# Altium integrated library Capacitor - Aluminium TH.IntLib: 4591 symbols (part 35 of 68)
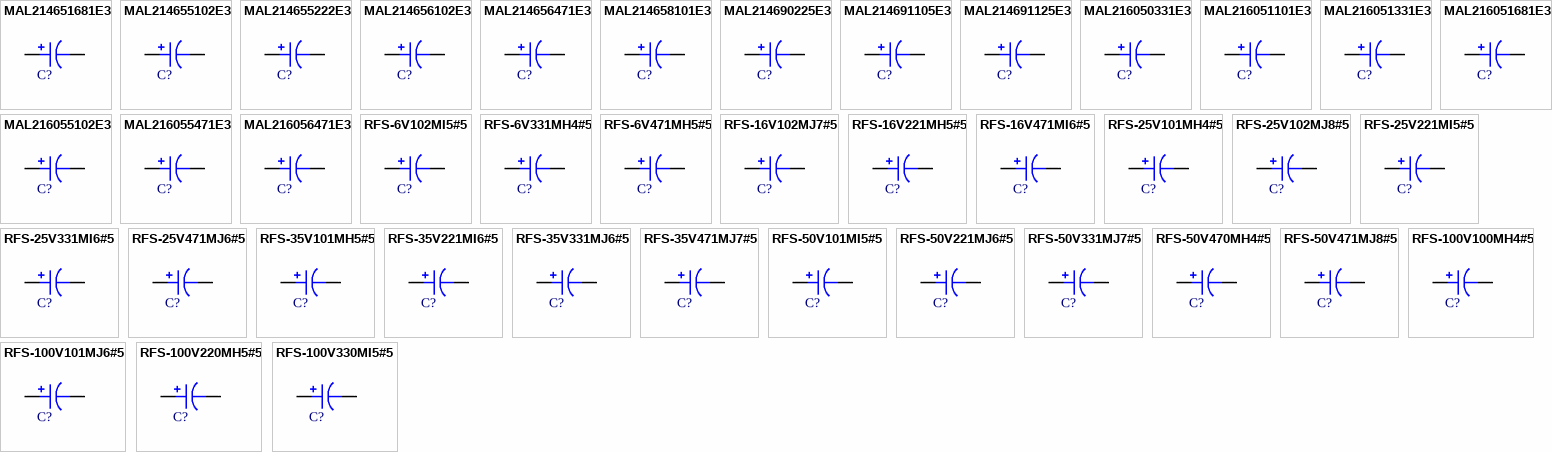
[diagram p148: symbols MAL214651681E3 to RFS-100V330MI5#5]

## MAL214655102E3
designator C?, comment 1000uF  (value not drawn)
CAP ALUM 1000UF 20% 16V RADIAL; Part Number: MAL214655102E3; Manufacturer: Vishay BC Components; TemperatureRange: -55C ~ 125C; Type: Polar; Ripple Current: 1.25A; Impedance: 60 mOhm; Value: 1000uF; PartId: 25999; Supplier 1: Digi-Key; Supplier Part Number 1: 4462PHBK-ND; ComponentLink1Description: Datasheet; ComponentLink1URL: http://www.vishay.com/docs/28401/146rti.pdf; ComponentLink2Description: Digi-Key Listing; ComponentLink2URL: https://www.digikey.com/product-detail/en/vishay-bc-components/MAL214655102E3/4462PHBK-ND/2410327; Tolerance: 20%; Voltage: 16V; Price: 1.52; Device Package: Radial, Can, 10mm
footprint CAP AL TH D10 L5 H22
pins: 1, 2

## MAL214655222E3
designator C?, comment 2200uF  (value not drawn)
CAP ALUM 2200UF 20% 16V RADIAL; Part Number: MAL214655222E3; Manufacturer: Vishay BC Components; TemperatureRange: -55C ~ 125C; Type: Polar; Ripple Current: 2A; Impedance: 33 mOhm; Value: 2200uF; PartId: 24192; Supplier 1: Digi-Key; Supplier Part Number 1: 4464PHBK-ND; ComponentLink1Description: Datasheet; ComponentLink1URL: http://www.vishay.com/docs/28401/146rti.pdf; ComponentLink2Description: Digi-Key Listing; ComponentLink2URL: https://www.digikey.com/product-detail/en/vishay-bc-components/MAL214655222E3/4464PHBK-ND/2410329; Tolerance: 20%; Voltage: 16V; Price: 2.41; Device Package: Radial, Can, 12.5mm
footprint CAP AL TH D12.5 L5 H27
pins: 1, 2

## MAL214656102E3
designator C?, comment 1000uF  (value not drawn)
CAP ALUM 1000UF 20% 25V RADIAL; Part Number: MAL214656102E3; Manufacturer: Vishay BC Components; TemperatureRange: -55C ~ 125C; Type: Polar; Ripple Current: 1.6A; Impedance: 43 mOhm; Value: 1000uF; PartId: 23532; Supplier 1: Digi-Key; Supplier Part Number 1: 4475PHBK-ND; ComponentLink1Description: Datasheet; ComponentLink1URL: http://www.vishay.com/docs/28401/146rti.pdf; ComponentLink2Description: Digi-Key Listing; ComponentLink2URL: https://www.digikey.com/product-detail/en/vishay-bc-components/MAL214656102E3/4475PHBK-ND/2410340; Tolerance: 20%; Voltage: 25V; Price: 1.98; Device Package: Radial, Can, 12.5mm
footprint CAP AL TH D12.5 L5 H22
pins: 1, 2

## MAL214656471E3
designator C?, comment 470uF  (value not drawn)
CAP ALUM 470UF 20% 25V RADIAL; Part Number: MAL214656471E3; Manufacturer: Vishay BC Components; TemperatureRange: -55C ~ 125C; Type: Polar; Ripple Current: 1.1A; Impedance: 75 mOhm; Value: 470uF; PartId: 25436; Supplier 1: Digi-Key; Supplier Part Number 1: 4473PHBK-ND; ComponentLink1Description: Datasheet; ComponentLink1URL: http://www.vishay.com/docs/28401/146rti.pdf; ComponentLink2Description: Digi-Key Listing; ComponentLink2URL: https://www.digikey.com/product-detail/en/vishay-bc-components/MAL214656471E3/4473PHBK-ND/2410338; Tolerance: 20%; Voltage: 25V; Price: 1.31; Device Package: Radial, Can, 10mm
footprint CAP AL TH D10 L5 H17.5
pins: 1, 2

## MAL214658101E3
designator C?, comment 100uF  (value not drawn)
CAP ALUM 100UF 20% 63V RADIAL; Part Number: MAL214658101E3; Manufacturer: Vishay BC Components; TemperatureRange: -55C ~ 125C; Type: Polar; Ripple Current: 600mA; Impedance: 220 mOhm; Value: 100uF; PartId: 25434; Supplier 1: Digi-Key; Supplier Part Number 1: 4512PHBK-ND; ComponentLink1Description: Datasheet; ComponentLink1URL: http://www.vishay.com/docs/28401/146rti.pdf; ComponentLink2Description: Digi-Key Listing; ComponentLink2URL: https://www.digikey.com/product-detail/en/vishay-bc-components/MAL214658101E3/4512PHBK-ND/2410377; Tolerance: 20%; Voltage: 63V; Price: 1.31; Device Package: Radial, Can, 10mm
footprint CAP AL TH D10 L5 H17.5
pins: 1, 2

## MAL214690225E3
designator C?, comment 2200uF  (value not drawn)
CAP ALUM 2200UF 20% 35V RADIAL; Part Number: MAL214690225E3; Manufacturer: Vishay BC Components; TemperatureRange: -55C ~ 125C; Type: Polar; Ripple Current: 3A; Impedance: 21 mOhm; Value: 2200uF; PartId: 27301; Supplier 1: Digi-Key; Supplier Part Number 1: 4494PHBK-ND; ComponentLink1Description: Datasheet; ComponentLink1URL: http://www.vishay.com/docs/28401/146rti.pdf; ComponentLink2Description: Digi-Key Listing; ComponentLink2URL: https://www.digikey.com/product-detail/en/vishay-bc-components/MAL214690225E3/4494PHBK-ND/2410359; Tolerance: 20%; Voltage: 35V; Price: 3.67; Device Package: Radial, Can, 16mm
footprint CAP AL TH D16 L7.5 H33.5
pins: 1, 2

## MAL214691105E3
designator C?, comment 1000uF  (value not drawn)
CAP ALUM 1000UF 20% 50V RADIAL; Part Number: MAL214691105E3; Manufacturer: Vishay BC Components; TemperatureRange: -55C ~ 125C; Type: Polar; Ripple Current: 2.1A; Impedance: 31 mOhm; Value: 1000uF; PartId: 26981; Supplier 1: Digi-Key; Supplier Part Number 1: 4505PHBK-ND; ComponentLink1Description: Datasheet; ComponentLink1URL: http://www.vishay.com/docs/28401/146rti.pdf; ComponentLink2Description: Digi-Key Listing; ComponentLink2URL: https://www.digikey.com/product-detail/en/vishay-bc-components/MAL214691105E3/4505PHBK-ND/2410370; Tolerance: 20%; Voltage: 50V; Price: 3.3; Device Package: Radial, Can, 16mm
footprint CAP AL TH D16 L7.5 H27
pins: 1, 2

## MAL214691125E3
designator C?, comment 1200uF  (value not drawn)
CAP ALUM 1200UF 20% 50V RADIAL; Part Number: MAL214691125E3; Manufacturer: Vishay BC Components; TemperatureRange: -55C ~ 125C; Type: Polar; Ripple Current: 2.55A; Impedance: 27 mOhm; Value: 1200uF; PartId: 27300; Supplier 1: Digi-Key; Supplier Part Number 1: 4507PHBK-ND; ComponentLink1Description: Datasheet; ComponentLink1URL: http://www.vishay.com/docs/28401/146rti.pdf; ComponentLink2Description: Digi-Key Listing; ComponentLink2URL: https://www.digikey.com/product-detail/en/vishay-bc-components/MAL214691125E3/4507PHBK-ND/2410372; Tolerance: 20%; Voltage: 50V; Price: 3.67; Device Package: Radial, Can, 16mm
footprint CAP AL TH D16 L7.5 H33.5
pins: 1, 2

## MAL216050331E3
designator C?, comment 330uF  (value not drawn)
CAP ALUM 330UF 20% 35V RADIAL; Part Number: MAL216050331E3; Manufacturer: Vishay BC Components; TemperatureRange: -55C ~ 150C; Type: Polar; Ripple Current: 455mA @ 100Hz; Impedance: 40 mOhm; Value: 330uF; PartId: 24200; Supplier 1: Digi-Key; Supplier Part Number 1: 4844PHBK-ND; ComponentLink1Description: Datasheet; ComponentLink1URL: http://www.vishay.com/docs/28420/160rla.pdf; ComponentLink2Description: Digi-Key Listing; ComponentLink2URL: https://www.digikey.com/product-detail/en/vishay-bc-components/MAL216050331E3/4844PHBK-ND/6002509; Tolerance: 20%; Voltage: 35V; Price: 2.52; Device Package: Radial, Can, 12.5mm
footprint CAP AL TH D12.5 L5 H27
pins: 1, 2

## MAL216051101E3
designator C?, comment 100uF  (value not drawn)
CAP ALUM 100UF 20% 50V RADIAL; Part Number: MAL216051101E3; Manufacturer: Vishay BC Components; TemperatureRange: -55C ~ 150C; Type: Polar; Ripple Current: 135mA @ 100Hz; Impedance: 260 mOhm; Value: 100uF; PartId: 25439; Supplier 1: Digi-Key; Supplier Part Number 1: 4840PHBK-ND; ComponentLink1Description: Datasheet; ComponentLink1URL: http://www.vishay.com/docs/28420/160rla.pdf; ComponentLink2Description: Digi-Key Listing; ComponentLink2URL: https://www.digikey.com/product-detail/en/vishay-bc-components/MAL216051101E3/4840PHBK-ND/6002505; Tolerance: 20%; Voltage: 50V; Price: 1.38; Device Package: Radial, Can, 10mm
footprint CAP AL TH D10 L5 H17.5
pins: 1, 2

## MAL216051331E3
designator C?, comment 330uF  (value not drawn)
CAP ALUM 330UF 20% 50V RADIAL; Part Number: MAL216051331E3; Manufacturer: Vishay BC Components; TemperatureRange: -55C ~ 150C; Type: Polar; Ripple Current: 200mA @ 100Hz; Impedance: 115 mOhm; Value: 330uF; PartId: 23535; Supplier 1: Digi-Key; Supplier Part Number 1: 4841PHBK-ND; ComponentLink1Description: Datasheet; ComponentLink1URL: http://www.vishay.com/docs/28420/160rla.pdf; ComponentLink2Description: Digi-Key Listing; ComponentLink2URL: https://www.digikey.com/product-detail/en/vishay-bc-components/MAL216051331E3/4841PHBK-ND/6002506; Tolerance: 20%; Voltage: 50V; Price: 2.09; Device Package: Radial, Can, 12.5mm
footprint CAP AL TH D12.5 L5 H22
pins: 1, 2

## MAL216051681E3
designator C?, comment 680uF  (value not drawn)
CAP ALUM 680UF 20% 50V RADIAL; Part Number: MAL216051681E3; Manufacturer: Vishay BC Components; TemperatureRange: -55C ~ 150C; Type: Polar; Ripple Current: 350mA @ 100Hz; Impedance: 69 mOhm; Value: 680uF; PartId: 26977; Supplier 1: Digi-Key; Supplier Part Number 1: 4845PHBK-ND; ComponentLink1Description: Datasheet; ComponentLink1URL: http://www.vishay.com/docs/28420/160rla.pdf; ComponentLink2Description: Digi-Key Listing; ComponentLink2URL: https://www.digikey.com/product-detail/en/vishay-bc-components/MAL216051681E3/4845PHBK-ND/6002510; Tolerance: 20%; Voltage: 50V; Price: 3.17; Device Package: Radial, Can, 16mm
footprint CAP AL TH D16 L7.5 H27
pins: 1, 2

## MAL216055102E3
designator C?, comment 1000uF  (value not drawn)
CAP ALUM 1000UF 20% 16V RADIAL; Part Number: MAL216055102E3; Manufacturer: Vishay BC Components; TemperatureRange: -55C ~ 150C; Type: Polar; Ripple Current: 560mA @ 100Hz; Impedance: 29 mOhm; Value: 1000uF; PartId: 26978; Supplier 1: Digi-Key; Supplier Part Number 1: 4842PHBK-ND; ComponentLink1Description: Datasheet; ComponentLink1URL: http://www.vishay.com/docs/28420/160rla.pdf; ComponentLink2Description: Digi-Key Listing; ComponentLink2URL: https://www.digikey.com/product-detail/en/vishay-bc-components/MAL216055102E3/4842PHBK-ND/6002507; Tolerance: 20%; Voltage: 16V; Price: 3.17; Device Package: Radial, Can, 16mm
footprint CAP AL TH D16 L7.5 H27
pins: 1, 2

## MAL216055471E3
designator C?, comment 470uF  (value not drawn)
CAP ALUM 470UF 20% 16V RADIAL; Part Number: MAL216055471E3; Manufacturer: Vishay BC Components; TemperatureRange: -55C ~ 150C; Type: Polar; Ripple Current: 420mA @ 100Hz; Impedance: 48 mOhm; Value: 470uF; PartId: 23536; Supplier 1: Digi-Key; Supplier Part Number 1: 4839PHBK-ND; ComponentLink1Description: Datasheet; ComponentLink1URL: http://www.vishay.com/docs/28420/160rla.pdf; ComponentLink2Description: Digi-Key Listing; ComponentLink2URL: https://www.digikey.com/product-detail/en/vishay-bc-components/MAL216055471E3/4839PHBK-ND/6002504; Tolerance: 20%; Voltage: 16V; Price: 2.09; Device Package: Radial, Can, 12.5mm
footprint CAP AL TH D12.5 L5 H22
pins: 1, 2

## MAL216056471E3
designator C?, comment 470uF  (value not drawn)
CAP ALUM 470UF 20% 25V RADIAL; Part Number: MAL216056471E3; Manufacturer: Vishay BC Components; TemperatureRange: -55C ~ 150C; Type: Polar; Ripple Current: 560mA @ 100Hz; Impedance: 29 mOhm; Value: 470uF; PartId: 26979; Supplier 1: Digi-Key; Supplier Part Number 1: 4843PHBK-ND; ComponentLink1Description: Datasheet; ComponentLink1URL: http://www.vishay.com/docs/28420/160rla.pdf; ComponentLink2Description: Digi-Key Listing; ComponentLink2URL: https://www.digikey.com/product-detail/en/vishay-bc-components/MAL216056471E3/4843PHBK-ND/6002508; Tolerance: 20%; Voltage: 25V; Price: 3.17; Device Package: Radial, Can, 16mm
footprint CAP AL TH D16 L7.5 H27
pins: 1, 2

## RFS-6V102MI5#5
designator C?, comment 1000uF  (value not drawn)
CAP ALUM 1000UF 20% 6.3V RADIAL; Part Number: RFS-6V102MI5#5; Manufacturer: Elna America; TemperatureRange: -40C ~ 85C; Type: Polar; Ripple Current: 710mA @ 120Hz; Value: 1000uF; PartId: 22944; Supplier 1: Digi-Key; Supplier Part Number 1: 604-1135-ND; ComponentLink1Description: Datasheet; ComponentLink1URL: http://www.elna.co.jp/en/capacitor/alumi/catalog/pdf/rfs_e.pdf; ComponentLink2Description: Digi-Key Listing; ComponentLink2URL: https://www.digikey.com/product-detail/en/elna-america/RFS-6V102MI5-5/604-1135-ND/2171186; Tolerance: 20%; Voltage: 6.3V; Price: 0; Device Package: Radial, Can, 12.5mm
footprint CAP AL TH D12.5 L5 H20
pins: 1, 2

## RFS-6V331MH4#5
designator C?, comment 330uF  (value not drawn)
CAP ALUM 330UF 20% 6.3V RADIAL; Part Number: RFS-6V331MH4#5; Manufacturer: Elna America; TemperatureRange: -40C ~ 85C; Type: Polar; Ripple Current: 290mA @ 120Hz; Value: 330uF; PartId: 25402; Supplier 1: Digi-Key; Supplier Part Number 1: 604-1138-ND; ComponentLink1Description: Datasheet; ComponentLink1URL: http://www.elna.co.jp/en/capacitor/alumi/catalog/pdf/rfs_e.pdf; ComponentLink2Description: Digi-Key Listing; ComponentLink2URL: https://www.digikey.com/product-detail/en/elna-america/RFS-6V331MH4-5/604-1138-ND/2171189; Tolerance: 20%; Voltage: 6.3V; Price: 0.8; Device Package: Radial, Can, 10mm
footprint CAP AL TH D10 L5 H17.5
pins: 1, 2

## RFS-6V471MH5#5
designator C?, comment 470uF  (value not drawn)
CAP ALUM 470UF 20% 6.3V RADIAL; Part Number: RFS-6V471MH5#5; Manufacturer: Elna America; TemperatureRange: -40C ~ 85C; Type: Polar; Ripple Current: 390mA @ 120Hz; Value: 470uF; PartId: 25685; Supplier 1: Digi-Key; Supplier Part Number 1: 604-1141-ND; ComponentLink1Description: Datasheet; ComponentLink1URL: http://www.elna.co.jp/en/capacitor/alumi/catalog/pdf/rfs_e.pdf; ComponentLink2Description: Digi-Key Listing; ComponentLink2URL: https://www.digikey.com/product-detail/en/elna-america/RFS-6V471MH5-5/604-1141-ND/2171192; Tolerance: 20%; Voltage: 6.3V; Price: 0.8; Device Package: Radial, Can, 10mm
footprint CAP AL TH D10 L5 H22
pins: 1, 2

## RFS-16V102MJ7#5
designator C?, comment 1000uF  (value not drawn)
CAP ALUM 1000UF 20% 16V RADIAL; Part Number: RFS-16V102MJ7#5; Manufacturer: Elna America; TemperatureRange: -40C ~ 85C; Type: Polar; Ripple Current: 1.315A @ 120Hz; Value: 1000uF; PartId: 27238; Supplier 1: Digi-Key; Supplier Part Number 1: 604-1111-ND; ComponentLink1Description: Datasheet; ComponentLink1URL: http://www.elna.co.jp/en/capacitor/alumi/catalog/pdf/rfs_e.pdf; ComponentLink2Description: Digi-Key Listing; ComponentLink2URL: https://www.digikey.com/product-detail/en/elna-america/RFS-16V102MJ7-5/604-1111-ND/2171162; Tolerance: 20%; Voltage: 16V; Price: 2.52; Device Package: Radial, Can, 16mm
footprint CAP AL TH D16 L7.5 H33.5
pins: 1, 2

## RFS-16V221MH5#5
designator C?, comment 220uF  (value not drawn)
CAP ALUM 220UF 20% 16V RADIAL; Part Number: RFS-16V221MH5#5; Manufacturer: Elna America; TemperatureRange: -40C ~ 85C; Type: Polar; Ripple Current: 385mA @ 120Hz; Value: 220uF; PartId: 25680; Supplier 1: Digi-Key; Supplier Part Number 1: 604-1114-ND; ComponentLink1Description: Datasheet; ComponentLink1URL: http://www.elna.co.jp/en/capacitor/alumi/catalog/pdf/rfs_e.pdf; ComponentLink2Description: Digi-Key Listing; ComponentLink2URL: https://www.digikey.com/product-detail/en/elna-america/RFS-16V221MH5-5/604-1114-ND/2171165; Tolerance: 20%; Voltage: 16V; Price: 0.8; Device Package: Radial, Can, 10mm
footprint CAP AL TH D10 L5 H22
pins: 1, 2

## RFS-16V471MI6#5
designator C?, comment 470uF  (value not drawn)
CAP ALUM 470UF 20% 16V RADIAL; Part Number: RFS-16V471MI6#5; Manufacturer: Elna America; TemperatureRange: -40C ~ 85C; Type: Polar; Ripple Current: 710mA @ 120Hz; Value: 470uF; PartId: 23617; Supplier 1: Digi-Key; Supplier Part Number 1: 604-1116-ND; ComponentLink1Description: Datasheet; ComponentLink1URL: http://www.elna.co.jp/en/capacitor/alumi/catalog/pdf/rfs_e.pdf; ComponentLink2Description: Digi-Key Listing; ComponentLink2URL: https://www.digikey.com/product-detail/en/elna-america/RFS-16V471MI6-5/604-1116-ND/2171167; Tolerance: 20%; Voltage: 16V; Price: 1.33; Device Package: Radial, Can, 12.5mm
footprint CAP AL TH D12.5 L5 H25
pins: 1, 2

## RFS-25V101MH4#5
designator C?, comment 100uF  (value not drawn)
CAP ALUM 100UF 20% 25V RADIAL; Part Number: RFS-25V101MH4#5; Manufacturer: Elna America; TemperatureRange: -40C ~ 85C; Type: Polar; Ripple Current: 270mA @ 120Hz; Value: 100uF; PartId: 25397; Supplier 1: Digi-Key; Supplier Part Number 1: 604-1055-ND; ComponentLink1Description: Datasheet; ComponentLink1URL: http://www.elna.co.jp/en/capacitor/alumi/catalog/pdf/rfs_e.pdf; ComponentLink2Description: Digi-Key Listing; ComponentLink2URL: https://www.digikey.com/product-detail/en/elna-america/RFS-25V101MH4-5/604-1055-ND/970216; Tolerance: 20%; Voltage: 25V; Price: 0.8; Device Package: Radial, Can, 10mm
footprint CAP AL TH D10 L5 H17.5
pins: 1, 2

## RFS-25V102MJ8#5
designator C?, comment 1000uF  (value not drawn)
CAP ALUM 1000UF 20% 25V RADIAL; Part Number: RFS-25V102MJ8#5; Manufacturer: Elna America; TemperatureRange: -40C ~ 85C; Type: Polar; Ripple Current: 1.575A @ 120Hz; Value: 1000uF; PartId: 27440; Supplier 1: Digi-Key; Supplier Part Number 1: 604-1059-ND; ComponentLink1Description: Datasheet; ComponentLink1URL: http://www.elna.co.jp/en/capacitor/alumi/catalog/pdf/rfs_e.pdf; ComponentLink2Description: Digi-Key Listing; ComponentLink2URL: https://www.digikey.com/product-detail/en/elna-america/RFS-25V102MJ8-5/604-1059-ND/970220; Tolerance: 20%; Voltage: 25V; Price: 3.38; Device Package: Radial, Can, 16mm
footprint CAP AL TH D16 L7.5 H37
pins: 1, 2

## RFS-25V221MI5#5
designator C?, comment 220uF  (value not drawn)
CAP ALUM 220UF 20% 25V RADIAL; Part Number: RFS-25V221MI5#5; Manufacturer: Elna America; TemperatureRange: -40C ~ 85C; Type: Polar; Ripple Current: 505mA @ 120Hz; Value: 220uF; PartId: 22942; Supplier 1: Digi-Key; Supplier Part Number 1: 604-1056-ND; ComponentLink1Description: Datasheet; ComponentLink1URL: http://www.elna.co.jp/en/capacitor/alumi/catalog/pdf/rfs_e.pdf; ComponentLink2Description: Digi-Key Listing; ComponentLink2URL: https://www.digikey.com/product-detail/en/elna-america/RFS-25V221MI5-5/604-1056-ND/970217; Tolerance: 20%; Voltage: 25V; Price: 0; Device Package: Radial, Can, 12.5mm
footprint CAP AL TH D12.5 L5 H20
pins: 1, 2

## RFS-25V331MI6#5
designator C?, comment 330uF  (value not drawn)
CAP ALUM 330UF 20% 25V RADIAL; Part Number: RFS-25V331MI6#5; Manufacturer: Elna America; TemperatureRange: -40C ~ 85C; Type: Polar; Ripple Current: 675mA @ 120Hz; Value: 330uF; PartId: 23619; Supplier 1: Digi-Key; Supplier Part Number 1: 604-1057-ND; ComponentLink1Description: Datasheet; ComponentLink1URL: http://www.elna.co.jp/en/capacitor/alumi/catalog/pdf/rfs_e.pdf; ComponentLink2Description: Digi-Key Listing; ComponentLink2URL: https://www.digikey.com/product-detail/en/elna-america/RFS-25V331MI6-5/604-1057-ND/970218; Tolerance: 20%; Voltage: 25V; Price: 1.33; Device Package: Radial, Can, 12.5mm
footprint CAP AL TH D12.5 L5 H25
pins: 1, 2

## RFS-25V471MJ6#5
designator C?, comment 470uF  (value not drawn)
CAP ALUM 470UF 20% 25V RADIAL; Part Number: RFS-25V471MJ6#5; Manufacturer: Elna America; TemperatureRange: -40C ~ 85C; Type: Polar; Ripple Current: 940mA @ 120Hz; Value: 470uF; PartId: 26708; Supplier 1: Digi-Key; Supplier Part Number 1: 604-1058-ND; ComponentLink1Description: Datasheet; ComponentLink1URL: http://www.elna.co.jp/en/capacitor/alumi/catalog/pdf/rfs_e.pdf; ComponentLink2Description: Digi-Key Listing; ComponentLink2URL: https://www.digikey.com/product-detail/en/elna-america/RFS-25V471MJ6-5/604-1058-ND/970219; Tolerance: 20%; Voltage: 25V; Price: 2.34; Device Package: Radial, Can, 16mm
footprint CAP AL TH D16 L7.5 H26.5
pins: 1, 2

## RFS-35V101MH5#5
designator C?, comment 100uF  (value not drawn)
CAP ALUM 100UF 20% 35V RADIAL; Part Number: RFS-35V101MH5#5; Manufacturer: Elna America; TemperatureRange: -40C ~ 85C; Type: Polar; Ripple Current: 295mA @ 120Hz; Value: 100uF; PartId: 25681; Supplier 1: Digi-Key; Supplier Part Number 1: 604-1065-ND; ComponentLink1Description: Datasheet; ComponentLink1URL: http://www.elna.co.jp/en/capacitor/alumi/catalog/pdf/rfs_e.pdf; ComponentLink2Description: Digi-Key Listing; ComponentLink2URL: https://www.digikey.com/product-detail/en/elna-america/RFS-35V101MH5-5/604-1065-ND/970226; Tolerance: 20%; Voltage: 35V; Price: 0.8; Device Package: Radial, Can, 10mm
footprint CAP AL TH D10 L5 H22
pins: 1, 2

## RFS-35V221MI6#5
designator C?, comment 220uF  (value not drawn)
CAP ALUM 220UF 20% 35V RADIAL; Part Number: RFS-35V221MI6#5; Manufacturer: Elna America; TemperatureRange: -40C ~ 85C; Type: Polar; Ripple Current: 550mA @ 120Hz; Value: 220uF; PartId: 23620; Supplier 1: Digi-Key; Supplier Part Number 1: 604-1066-ND; ComponentLink1Description: Datasheet; ComponentLink1URL: http://www.elna.co.jp/en/capacitor/alumi/catalog/pdf/rfs_e.pdf; ComponentLink2Description: Digi-Key Listing; ComponentLink2URL: https://www.digikey.com/product-detail/en/elna-america/RFS-35V221MI6-5/604-1066-ND/970227; Tolerance: 20%; Voltage: 35V; Price: 1.33; Device Package: Radial, Can, 12.5mm
footprint CAP AL TH D12.5 L5 H25
pins: 1, 2

## RFS-35V331MJ6#5
designator C?, comment 330uF  (value not drawn)
CAP ALUM 330UF 20% 35V RADIAL; Part Number: RFS-35V331MJ6#5; Manufacturer: Elna America; TemperatureRange: -40C ~ 85C; Type: Polar; Ripple Current: 785mA @ 120Hz; Value: 330uF; PartId: 26709; Supplier 1: Digi-Key; Supplier Part Number 1: 604-1067-ND; ComponentLink1Description: Datasheet; ComponentLink1URL: http://www.elna.co.jp/en/capacitor/alumi/catalog/pdf/rfs_e.pdf; ComponentLink2Description: Digi-Key Listing; ComponentLink2URL: https://www.digikey.com/product-detail/en/elna-america/RFS-35V331MJ6-5/604-1067-ND/970228; Tolerance: 20%; Voltage: 35V; Price: 2.34; Device Package: Radial, Can, 16mm
footprint CAP AL TH D16 L7.5 H26.5
pins: 1, 2

## RFS-35V471MJ7#5
designator C?, comment 470uF  (value not drawn)
CAP ALUM 470UF 20% 35V RADIAL; Part Number: RFS-35V471MJ7#5; Manufacturer: Elna America; TemperatureRange: -40C ~ 85C; Type: Polar; Ripple Current: 1.03A @ 120Hz; Value: 470uF; PartId: 27240; Supplier 1: Digi-Key; Supplier Part Number 1: 604-1068-ND; ComponentLink1Description: Datasheet; ComponentLink1URL: http://www.elna.co.jp/en/capacitor/alumi/catalog/pdf/rfs_e.pdf; ComponentLink2Description: Digi-Key Listing; ComponentLink2URL: https://www.digikey.com/product-detail/en/elna-america/RFS-35V471MJ7-5/604-1068-ND/970229; Tolerance: 20%; Voltage: 35V; Price: 2.52; Device Package: Radial, Can, 16mm
footprint CAP AL TH D16 L7.5 H33.5
pins: 1, 2

## RFS-50V101MI5#5
designator C?, comment 100uF  (value not drawn)
CAP ALUM 100UF 20% 50V RADIAL; Part Number: RFS-50V101MI5#5; Manufacturer: Elna America; TemperatureRange: -40C ~ 85C; Type: Polar; Ripple Current: 380mA @ 120Hz; Value: 100uF; PartId: 22943; Supplier 1: Digi-Key; Supplier Part Number 1: 604-1120-ND; ComponentLink1Description: Datasheet; ComponentLink1URL: http://www.elna.co.jp/en/capacitor/alumi/catalog/pdf/rfs_e.pdf; ComponentLink2Description: Digi-Key Listing; ComponentLink2URL: https://www.digikey.com/product-detail/en/elna-america/RFS-50V101MI5-5/604-1120-ND/2171171; Tolerance: 20%; Voltage: 50V; Price: 0; Device Package: Radial, Can, 12.5mm
footprint CAP AL TH D12.5 L5 H20
pins: 1, 2

## RFS-50V221MJ6#5
designator C?, comment 220uF  (value not drawn)
CAP ALUM 220UF 20% 50V RADIAL; Part Number: RFS-50V221MJ6#5; Manufacturer: Elna America; TemperatureRange: -40C ~ 85C; Type: Polar; Ripple Current: 720mA @ 120Hz; Value: 220uF; PartId: 26707; Supplier 1: Digi-Key; Supplier Part Number 1: 604-1123-ND; ComponentLink1Description: Datasheet; ComponentLink1URL: http://www.elna.co.jp/en/capacitor/alumi/catalog/pdf/rfs_e.pdf; ComponentLink2Description: Digi-Key Listing; ComponentLink2URL: https://www.digikey.com/product-detail/en/elna-america/RFS-50V221MJ6-5/604-1123-ND/2171174; Tolerance: 20%; Voltage: 50V; Price: 2.34; Device Package: Radial, Can, 16mm
footprint CAP AL TH D16 L7.5 H26.5
pins: 1, 2

## RFS-50V331MJ7#5
designator C?, comment 330uF  (value not drawn)
CAP ALUM 330UF 20% 50V RADIAL; Part Number: RFS-50V331MJ7#5; Manufacturer: Elna America; TemperatureRange: -40C ~ 85C; Type: Polar; Ripple Current: 965mA @ 120Hz; Value: 330uF; PartId: 27239; Supplier 1: Digi-Key; Supplier Part Number 1: 604-1126-ND; ComponentLink1Description: Datasheet; ComponentLink1URL: http://www.elna.co.jp/en/capacitor/alumi/catalog/pdf/rfs_e.pdf; ComponentLink2Description: Digi-Key Listing; ComponentLink2URL: https://www.digikey.com/product-detail/en/elna-america/RFS-50V331MJ7-5/604-1126-ND/2171177; Tolerance: 20%; Voltage: 50V; Price: 2.52; Device Package: Radial, Can, 16mm
footprint CAP AL TH D16 L7.5 H33.5
pins: 1, 2

## RFS-50V470MH4#5
designator C?, comment 47uF  (value not drawn)
CAP ALUM 47UF 20% 50V RADIAL; Part Number: RFS-50V470MH4#5; Manufacturer: Elna America; TemperatureRange: -40C ~ 85C; Type: Polar; Ripple Current: 210mA @ 120Hz; Value: 47uF; PartId: 25400; Supplier 1: Digi-Key; Supplier Part Number 1: 604-1127-ND; ComponentLink1Description: Datasheet; ComponentLink1URL: http://www.elna.co.jp/en/capacitor/alumi/catalog/pdf/rfs_e.pdf; ComponentLink2Description: Digi-Key Listing; ComponentLink2URL: https://www.digikey.com/product-detail/en/elna-america/RFS-50V470MH4-5/604-1127-ND/2171178; Tolerance: 20%; Voltage: 50V; Price: 0.8; Device Package: Radial, Can, 10mm
footprint CAP AL TH D10 L5 H17.5
pins: 1, 2

## RFS-50V471MJ8#5
designator C?, comment 470uF  (value not drawn)
CAP ALUM 470UF 20% 50V RADIAL; Part Number: RFS-50V471MJ8#5; Manufacturer: Elna America; TemperatureRange: -40C ~ 85C; Type: Polar; Ripple Current: 1.21A @ 120Hz; Value: 470uF; PartId: 27439; Supplier 1: Digi-Key; Supplier Part Number 1: 604-1128-ND; ComponentLink1Description: Datasheet; ComponentLink1URL: http://www.elna.co.jp/en/capacitor/alumi/catalog/pdf/rfs_e.pdf; ComponentLink2Description: Digi-Key Listing; ComponentLink2URL: https://www.digikey.com/product-detail/en/elna-america/RFS-50V471MJ8-5/604-1128-ND/2171179; Tolerance: 20%; Voltage: 50V; Price: 3.38; Device Package: Radial, Can, 16mm
footprint CAP AL TH D16 L7.5 H37
pins: 1, 2

## RFS-100V100MH4#5
designator C?, comment 10uF  (value not drawn)
CAP ALUM 10UF 20% 100V RADIAL; Part Number: RFS-100V100MH4#5; Manufacturer: Elna America; TemperatureRange: -40C ~ 85C; Type: Polar; Ripple Current: 95mA @ 120Hz; Value: 10uF; PartId: 25399; Supplier 1: Digi-Key; Supplier Part Number 1: 604-1099-ND; ComponentLink1Description: Datasheet; ComponentLink1URL: http://www.elna.co.jp/en/capacitor/alumi/catalog/pdf/rfs_e.pdf; ComponentLink2Description: Digi-Key Listing; ComponentLink2URL: https://www.digikey.com/product-detail/en/elna-america/RFS-100V100MH4-5/604-1099-ND/2171150; Tolerance: 20%; Voltage: 100V; Price: 0.8; Device Package: Radial, Can, 10mm
footprint CAP AL TH D10 L5 H17.5
pins: 1, 2

## RFS-100V101MJ6#5
designator C?, comment 100uF  (value not drawn)
CAP ALUM 100UF 20% 100V RADIAL; Part Number: RFS-100V101MJ6#5; Manufacturer: Elna America; TemperatureRange: -40C ~ 85C; Type: Polar; Ripple Current: 485mA @ 120Hz; Value: 100uF; PartId: 26710; Supplier 1: Digi-Key; Supplier Part Number 1: 604-1100-ND; ComponentLink1Description: Datasheet; ComponentLink1URL: http://www.elna.co.jp/en/capacitor/alumi/catalog/pdf/rfs_e.pdf; ComponentLink2Description: Digi-Key Listing; ComponentLink2URL: https://www.digikey.com/product-detail/en/elna-america/RFS-100V101MJ6-5/604-1100-ND/2171151; Tolerance: 20%; Voltage: 100V; Price: 2.34; Device Package: Radial, Can, 16mm
footprint CAP AL TH D16 L7.5 H26.5
pins: 1, 2

## RFS-100V220MH5#5
designator C?, comment 22uF  (value not drawn)
CAP ALUM 22UF 20% 100V RADIAL; Part Number: RFS-100V220MH5#5; Manufacturer: Elna America; TemperatureRange: -40C ~ 85C; Type: Polar; Ripple Current: 155mA @ 120Hz; Value: 22uF; PartId: 25684; Supplier 1: Digi-Key; Supplier Part Number 1: 604-1101-ND; ComponentLink1Description: Datasheet; ComponentLink1URL: http://www.elna.co.jp/en/capacitor/alumi/catalog/pdf/rfs_e.pdf; ComponentLink2Description: Digi-Key Listing; ComponentLink2URL: https://www.digikey.com/product-detail/en/elna-america/RFS-100V220MH5-5/604-1101-ND/2171152; Tolerance: 20%; Voltage: 100V; Price: 0.8; Device Package: Radial, Can, 10mm
footprint CAP AL TH D10 L5 H22
pins: 1, 2

## RFS-100V330MI5#5
designator C?, comment 33uF  (value not drawn)
CAP ALUM 33UF 20% 100V RADIAL; Part Number: RFS-100V330MI5#5; Manufacturer: Elna America; TemperatureRange: -40C ~ 85C; Type: Polar; Ripple Current: 220mA @ 120Hz; Value: 33uF; PartId: 22945; Supplier 1: Digi-Key; Supplier Part Number 1: 604-1105-ND; ComponentLink1Description: Datasheet; ComponentLink1URL: http://www.elna.co.jp/en/capacitor/alumi/catalog/pdf/rfs_e.pdf; ComponentLink2Description: Digi-Key Listing; ComponentLink2URL: https://www.digikey.com/product-detail/en/elna-america/RFS-100V330MI5-5/604-1105-ND/2171156; Tolerance: 20%; Voltage: 100V; Price: 0; Device Package: Radial, Can, 12.5mm
footprint CAP AL TH D12.5 L5 H20
pins: 1, 2

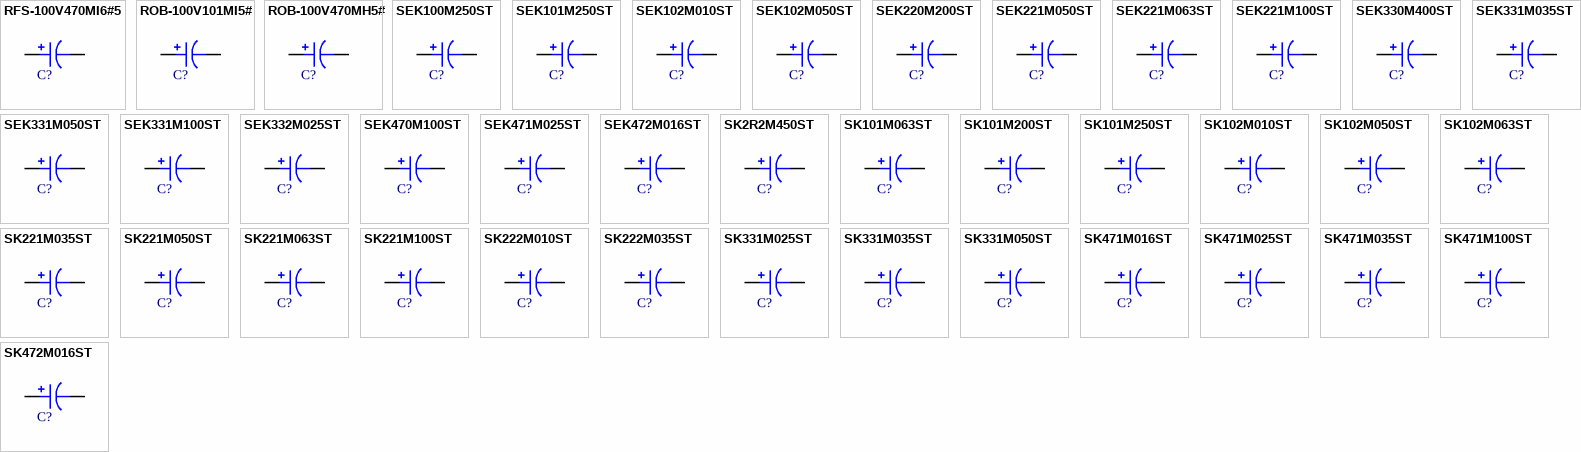
[diagram p57: symbols RFS-100V470MI6#5 to SK472M016ST]

## RFS-100V470MI6#5
designator C?, comment 47uF  (value not drawn)
CAP ALUM 47UF 20% 100V RADIAL; Part Number: RFS-100V470MI6#5; Manufacturer: Elna America; TemperatureRange: -40C ~ 85C; Type: Polar; Ripple Current: 285mA @ 120Hz; Value: 47uF; PartId: 23618; Supplier 1: Digi-Key; Supplier Part Number 1: 604-1107-ND; ComponentLink1Description: Datasheet; ComponentLink1URL: http://www.elna.co.jp/en/capacitor/alumi/catalog/pdf/rfs_e.pdf; ComponentLink2Description: Digi-Key Listing; ComponentLink2URL: https://www.digikey.com/product-detail/en/elna-america/RFS-100V470MI6-5/604-1107-ND/2171158; Tolerance: 20%; Voltage: 100V; Price: 1.33; Device Package: Radial, Can, 12.5mm
footprint CAP AL TH D12.5 L5 H25
pins: 1, 2

## ROB-100V101MI5#
designator C?, comment 100uF  (value not drawn)
CAP ALUM 100UF 20% 100V RADIAL; Part Number: ROB-100V101MI5#; Manufacturer: Elna America; TemperatureRange: -40C ~ 85C; Type: Polar; Ripple Current: 340mA @ 120Hz; Value: 100uF; PartId: 22946; Supplier 1: Digi-Key; Supplier Part Number 1: 604-1142-ND; ComponentLink1Description: Datasheet; ComponentLink1URL: http://www.elna.co.jp/en/capacitor/alumi/catalog/pdf/rob_e.pdf; ComponentLink2Description: Digi-Key Listing; ComponentLink2URL: https://www.digikey.com/product-detail/en/elna-america/ROB-100V101MI5-/604-1142-ND/2171193; Tolerance: 20%; Voltage: 100V; Price: 0; Device Package: Radial, Can, 12.5mm
footprint CAP AL TH D12.5 L5 H20
pins: 1, 2

## ROB-100V470MH5#
designator C?, comment 47uF  (value not drawn)
CAP ALUM 47UF 20% 100V RADIAL; Part Number: ROB-100V470MH5#; Manufacturer: Elna America; TemperatureRange: -40C ~ 85C; Type: Polar; Ripple Current: 210mA @ 120Hz; Value: 47uF; PartId: 25683; Supplier 1: Digi-Key; Supplier Part Number 1: 604-1143-ND; ComponentLink1Description: Datasheet; ComponentLink1URL: http://www.elna.co.jp/en/capacitor/alumi/catalog/pdf/rob_e.pdf; ComponentLink2Description: Digi-Key Listing; ComponentLink2URL: https://www.digikey.com/product-detail/en/elna-america/ROB-100V470MH5-/604-1143-ND/2171194; Tolerance: 20%; Voltage: 100V; Price: 0.8; Device Package: Radial, Can, 10mm
footprint CAP AL TH D10 L5 H22
pins: 1, 2

## SEK100M250ST
designator C?, comment 10uF  (value not drawn)
CAP ALUM 10UF 20% 250V RADIAL; Part Number: SEK100M250ST; Manufacturer: Cornell Dubilier Electronics (CDE); TemperatureRange: -40C ~ 105C; Ripple Current: 88mA; Value: 10uF; PartId: 25427; Supplier 1: Digi-Key; Supplier Part Number 1: 338-2333-ND; ComponentLink1Description: Datasheet; ComponentLink1URL: http://www.cde.com/resources/catalogs/SEK.pdf; ComponentLink2Description: Digi-Key Listing; ComponentLink2URL: https://www.digikey.com/product-detail/en/cornell-dubilier-electronics-cde/SEK100M250ST/338-2333-ND/1627113; Tolerance: 20%; Voltage: 250V; Price: 1.18; Device Package: Radial, Can, 10mm
footprint CAP AL TH D10 L5 H17.5
pins: 1, 2

## SEK101M250ST
designator C?, comment 100uF  (value not drawn)
CAP ALUM 100UF 20% 250V RADIAL; Part Number: SEK101M250ST; Manufacturer: Cornell Dubilier Electronics (CDE); TemperatureRange: -40C ~ 105C; Ripple Current: 340mA; Value: 100uF; PartId: 27311; Supplier 1: Digi-Key; Supplier Part Number 1: 338-1755-ND; ComponentLink1Description: Datasheet; ComponentLink1URL: http://www.cde.com/resources/catalogs/SEK.pdf; ComponentLink2Description: Digi-Key Listing; ComponentLink2URL: https://www.digikey.com/product-detail/en/cornell-dubilier-electronics-cde/SEK101M250ST/338-1755-ND/1627125; Tolerance: 20%; Voltage: 250V; Price: 4.34; Device Package: Radial, Can, 16mm
footprint CAP AL TH D16 L7.5 H33.5
pins: 1, 2

## SEK102M010ST
designator C?, comment 1000uF  (value not drawn)
CAP ALUM 1000UF 20% 10V RADIAL; Part Number: SEK102M010ST; Manufacturer: Cornell Dubilier Electronics (CDE); TemperatureRange: -55C ~ 105C; Ripple Current: 570mA; Value: 1000uF; PartId: 25424; Supplier 1: Digi-Key; Supplier Part Number 1: 338-2337-ND; ComponentLink1Description: Datasheet; ComponentLink1URL: http://www.cde.com/resources/catalogs/SEK.pdf; ComponentLink2Description: Digi-Key Listing; ComponentLink2URL: https://www.digikey.com/product-detail/en/cornell-dubilier-electronics-cde/SEK102M010ST/338-2337-ND/1627128; Tolerance: 20%; Voltage: 10V; Price: 1.03; Device Package: Radial, Can, 10mm
footprint CAP AL TH D10 L5 H17.5
pins: 1, 2

## SEK102M050ST
designator C?, comment 1000uF  (value not drawn)
CAP ALUM 1000UF 20% 50V RADIAL; Part Number: SEK102M050ST; Manufacturer: Cornell Dubilier Electronics (CDE); TemperatureRange: -55C ~ 105C; Ripple Current: 1.11A; Value: 1000uF; PartId: 26733; Supplier 1: Digi-Key; Supplier Part Number 1: 338-1729-ND; ComponentLink1Description: Datasheet; ComponentLink1URL: http://www.cde.com/resources/catalogs/SEK.pdf; ComponentLink2Description: Digi-Key Listing; ComponentLink2URL: https://www.digikey.com/product-detail/en/cornell-dubilier-electronics-cde/SEK102M050ST/338-1729-ND/1627132; Tolerance: 20%; Voltage: 50V; Price: 8.37; Device Package: Radial, Can, 16mm
footprint CAP AL TH D16 L7.5 H26.5
pins: 1, 2

## SEK220M200ST
designator C?, comment 22uF  (value not drawn)
CAP ALUM 22UF 20% 200V RADIAL; Part Number: SEK220M200ST; Manufacturer: Cornell Dubilier Electronics (CDE); TemperatureRange: -40C ~ 105C; Ripple Current: 140mA; Value: 22uF; PartId: 25715; Supplier 1: Digi-Key; Supplier Part Number 1: 338-2338-ND; ComponentLink1Description: Datasheet; ComponentLink1URL: http://www.cde.com/resources/catalogs/SEK.pdf; ComponentLink2Description: Digi-Key Listing; ComponentLink2URL: https://www.digikey.com/product-detail/en/cornell-dubilier-electronics-cde/SEK220M200ST/338-2338-ND/1627146; Tolerance: 20%; Voltage: 200V; Price: 1.22; Device Package: Radial, Can, 10mm
footprint CAP AL TH D10 L5 H22
pins: 1, 2

## SEK221M050ST
designator C?, comment 220uF  (value not drawn)
CAP ALUM 220UF 20% 50V RADIAL; Part Number: SEK221M050ST; Manufacturer: Cornell Dubilier Electronics (CDE); TemperatureRange: -55C ~ 105C; Ripple Current: 400mA; Value: 220uF; PartId: 25442; Supplier 1: Digi-Key; Supplier Part Number 1: 338-1720-ND; ComponentLink1Description: Datasheet; ComponentLink1URL: http://www.cde.com/resources/catalogs/SEK.pdf; ComponentLink2Description: Digi-Key Listing; ComponentLink2URL: https://www.digikey.com/product-detail/en/cornell-dubilier-electronics-cde/SEK221M050ST/338-1720-ND/1627154; Tolerance: 20%; Voltage: 50V; Price: 3.23; Device Package: Radial, Can, 10mm
footprint CAP AL TH D10 L5 H17.5
pins: 1, 2

## SEK221M063ST
designator C?, comment 220uF  (value not drawn)
CAP ALUM 220UF 20% 63V RADIAL; Part Number: SEK221M063ST; Manufacturer: Cornell Dubilier Electronics (CDE); TemperatureRange: -55C ~ 105C; Ripple Current: 460mA; Value: 220uF; PartId: 25713; Supplier 1: Digi-Key; Supplier Part Number 1: 338-1737-ND; ComponentLink1Description: Datasheet; ComponentLink1URL: http://www.cde.com/resources/catalogs/SEK.pdf; ComponentLink2Description: Digi-Key Listing; ComponentLink2URL: https://www.digikey.com/product-detail/en/cornell-dubilier-electronics-cde/SEK221M063ST/338-1737-ND/1627155; Tolerance: 20%; Voltage: 63V; Price: 1.18; Device Package: Radial, Can, 10mm
footprint CAP AL TH D10 L5 H22
pins: 1, 2

## SEK221M100ST
designator C?, comment 220uF  (value not drawn)
CAP ALUM 220UF 20% 100V RADIAL; Part Number: SEK221M100ST; Manufacturer: Cornell Dubilier Electronics (CDE); TemperatureRange: -55C ~ 105C; Ripple Current: 590mA; Value: 220uF; PartId: 26713; Supplier 1: Digi-Key; Supplier Part Number 1: 338-2340-ND; ComponentLink1Description: Datasheet; ComponentLink1URL: http://www.cde.com/resources/catalogs/SEK.pdf; ComponentLink2Description: Digi-Key Listing; ComponentLink2URL: https://www.digikey.com/product-detail/en/cornell-dubilier-electronics-cde/SEK221M100ST/338-2340-ND/1627156; Tolerance: 20%; Voltage: 100V; Price: 2.45; Device Package: Radial, Can, 16mm
footprint CAP AL TH D16 L7.5 H26.5
pins: 1, 2

## SEK330M400ST
designator C?, comment 33uF  (value not drawn)
CAP ALUM 33UF 20% 400V RADIAL; Part Number: SEK330M400ST; Manufacturer: Cornell Dubilier Electronics (CDE); TemperatureRange: -40C ~ 105C; Ripple Current: 205mA; Value: 33uF; PartId: 27259; Supplier 1: Digi-Key; Supplier Part Number 1: 338-2346-ND; ComponentLink1Description: Datasheet; ComponentLink1URL: http://www.cde.com/resources/catalogs/SEK.pdf; ComponentLink2Description: Digi-Key Listing; ComponentLink2URL: https://www.digikey.com/product-detail/en/cornell-dubilier-electronics-cde/SEK330M400ST/338-2346-ND/1627183; Tolerance: 20%; Voltage: 400V; Price: 2.82; Device Package: Radial, Can, 16mm
footprint CAP AL TH D16 L7.5 H33.5
pins: 1, 2

## SEK331M035ST
designator C?, comment 330uF  (value not drawn)
CAP ALUM 330UF 20% 35V RADIAL; Part Number: SEK331M035ST; Manufacturer: Cornell Dubilier Electronics (CDE); TemperatureRange: -55C ~ 105C; Ripple Current: 440mA; Value: 330uF; PartId: 25425; Supplier 1: Digi-Key; Supplier Part Number 1: 338-1741-ND; ComponentLink1Description: Datasheet; ComponentLink1URL: http://www.cde.com/resources/catalogs/SEK.pdf; ComponentLink2Description: Digi-Key Listing; ComponentLink2URL: https://www.digikey.com/product-detail/en/cornell-dubilier-electronics-cde/SEK331M035ST/338-1741-ND/1627187; Tolerance: 20%; Voltage: 35V; Price: 1.03; Device Package: Radial, Can, 10mm
footprint CAP AL TH D10 L5 H17.5
pins: 1, 2

## SEK331M050ST
designator C?, comment 330uF  (value not drawn)
CAP ALUM 330UF 20% 50V RADIAL; Part Number: SEK331M050ST; Manufacturer: Cornell Dubilier Electronics (CDE); TemperatureRange: -55C ~ 105C; Ripple Current: 535mA; Value: 330uF; PartId: 25714; Supplier 1: Digi-Key; Supplier Part Number 1: 338-1748-ND; ComponentLink1Description: Datasheet; ComponentLink1URL: http://www.cde.com/resources/catalogs/SEK.pdf; ComponentLink2Description: Digi-Key Listing; ComponentLink2URL: https://www.digikey.com/product-detail/en/cornell-dubilier-electronics-cde/SEK331M050ST/338-1748-ND/1627188; Tolerance: 20%; Voltage: 50V; Price: 1.18; Device Package: Radial, Can, 10mm
footprint CAP AL TH D10 L5 H22
pins: 1, 2

## SEK331M100ST
designator C?, comment 330uF  (value not drawn)
CAP ALUM 330UF 20% 100V RADIAL; Part Number: SEK331M100ST; Manufacturer: Cornell Dubilier Electronics (CDE); TemperatureRange: -55C ~ 105C; Ripple Current: 720mA; Value: 330uF; PartId: 26728; Supplier 1: Digi-Key; Supplier Part Number 1: 338-2347-ND; ComponentLink1Description: Datasheet; ComponentLink1URL: http://www.cde.com/resources/catalogs/SEK.pdf; ComponentLink2Description: Digi-Key Listing; ComponentLink2URL: https://www.digikey.com/product-detail/en/cornell-dubilier-electronics-cde/SEK331M100ST/338-2347-ND/1627190; Tolerance: 20%; Voltage: 100V; Price: 2.92; Device Package: Radial, Can, 16mm
footprint CAP AL TH D16 L7.5 H26.5
pins: 1, 2

## SEK332M025ST
designator C?, comment 3300uF  (value not drawn)
CAP ALUM 3300UF 20% 25V RADIAL; Part Number: SEK332M025ST; Manufacturer: Cornell Dubilier Electronics (CDE); TemperatureRange: -55C ~ 105C; Ripple Current: 1.45A; Value: 3300uF; PartId: 27248; Supplier 1: Digi-Key; Supplier Part Number 1: 338-2349-ND; ComponentLink1Description: Datasheet; ComponentLink1URL: http://www.cde.com/resources/catalogs/SEK.pdf; ComponentLink2Description: Digi-Key Listing; ComponentLink2URL: https://www.digikey.com/product-detail/en/cornell-dubilier-electronics-cde/SEK332M025ST/338-2349-ND/1627195; Tolerance: 20%; Voltage: 25V; Price: 2.65; Device Package: Radial, Can, 16mm
footprint CAP AL TH D16 L7.5 H33.5
pins: 1, 2

## SEK470M100ST
designator C?, comment 47uF  (value not drawn)
CAP ALUM 47UF 20% 100V RADIAL; Part Number: SEK470M100ST; Manufacturer: Cornell Dubilier Electronics (CDE); TemperatureRange: -55C ~ 105C; Ripple Current: 210mA; Value: 47uF; PartId: 25416; Supplier 1: Digi-Key; Supplier Part Number 1: 338-2355-ND; ComponentLink1Description: Datasheet; ComponentLink1URL: http://www.cde.com/resources/catalogs/SEK.pdf; ComponentLink2Description: Digi-Key Listing; ComponentLink2URL: https://www.digikey.com/product-detail/en/cornell-dubilier-electronics-cde/SEK470M100ST/338-2355-ND/1627212; Tolerance: 20%; Voltage: 100V; Price: 0.95; Device Package: Radial, Can, 10mm
footprint CAP AL TH D10 L5 H17.5
pins: 1, 2

## SEK471M025ST
designator C?, comment 470uF  (value not drawn)
CAP ALUM 470UF 20% 25V RADIAL; Part Number: SEK471M025ST; Manufacturer: Cornell Dubilier Electronics (CDE); TemperatureRange: -55C ~ 105C; Ripple Current: 470mA; Value: 470uF; PartId: 25443; Supplier 1: Digi-Key; Supplier Part Number 1: 338-1715-ND; ComponentLink1Description: Datasheet; ComponentLink1URL: http://www.cde.com/resources/catalogs/SEK.pdf; ComponentLink2Description: Digi-Key Listing; ComponentLink2URL: https://www.digikey.com/product-detail/en/cornell-dubilier-electronics-cde/SEK471M025ST/338-1715-ND/1627220; Tolerance: 20%; Voltage: 25V; Price: 3.29; Device Package: Radial, Can, 10mm
footprint CAP AL TH D10 L5 H17.5
pins: 1, 2

## SEK472M016ST
designator C?, comment 4700uF  (value not drawn)
CAP ALUM 4700UF 20% 16V RADIAL; Part Number: SEK472M016ST; Manufacturer: Cornell Dubilier Electronics (CDE); TemperatureRange: -55C ~ 105C; Ripple Current: 1.56A; Value: 4700uF; PartId: 27285; Supplier 1: Digi-Key; Supplier Part Number 1: 338-2357-ND; ComponentLink1Description: Datasheet; ComponentLink1URL: http://www.cde.com/resources/catalogs/SEK.pdf; ComponentLink2Description: Digi-Key Listing; ComponentLink2URL: https://www.digikey.com/product-detail/en/cornell-dubilier-electronics-cde/SEK472M016ST/338-2357-ND/1627227; Tolerance: 20%; Voltage: 16V; Price: 3.23; Device Package: Radial, Can, 16mm
footprint CAP AL TH D16 L7.5 H33.5
pins: 1, 2

## SK2R2M450ST
designator C?, comment 2.2uF  (value not drawn)
CAP ALUM 2.2UF 20% 450V RADIAL; Part Number: SK2R2M450ST; Manufacturer: Cornell Dubilier Electronics (CDE); TemperatureRange: -25C ~ 85C; Ripple Current: 29mA; Value: 2.2uF; PartId: 25406; Supplier 1: Digi-Key; Supplier Part Number 1: 338-2384-ND; ComponentLink1Description: Datasheet; ComponentLink1URL: http://www.cde.com/resources/catalogs/SK.pdf; ComponentLink2Description: Digi-Key Listing; ComponentLink2URL: https://www.digikey.com/product-detail/en/cornell-dubilier-electronics-cde/SK2R2M450ST/338-2384-ND/1627453; Tolerance: 20%; Voltage: 450V; Price: 0.81; Device Package: Radial, Can, 10mm
footprint CAP AL TH D10 L5 H17.5
pins: 1, 2

## SK101M063ST
designator C?, comment 100uF  (value not drawn)
CAP ALUM 100UF 20% 63V RADIAL; Part Number: SK101M063ST; Manufacturer: Cornell Dubilier Electronics (CDE); TemperatureRange: -40C ~ 85C; Ripple Current: 300mA; Value: 100uF; PartId: 25441; Supplier 1: Digi-Key; Supplier Part Number 1: 338-1705-ND; ComponentLink1Description: Datasheet; ComponentLink1URL: http://www.cde.com/resources/catalogs/SK.pdf; ComponentLink2Description: Digi-Key Listing; ComponentLink2URL: https://www.digikey.com/product-detail/en/cornell-dubilier-electronics-cde/SK101M063ST/338-1705-ND/1627398; Tolerance: 20%; Voltage: 63V; Price: 2.41; Device Package: Radial, Can, 10mm
footprint CAP AL TH D10 L5 H17.5
pins: 1, 2

## SK101M200ST
designator C?, comment 100uF  (value not drawn)
CAP ALUM 100UF 20% 200V RADIAL; Part Number: SK101M200ST; Manufacturer: Cornell Dubilier Electronics (CDE); TemperatureRange: -25C ~ 85C; Ripple Current: 330mA; Value: 100uF; PartId: 26732; Supplier 1: Digi-Key; Supplier Part Number 1: 338-2372-ND; ComponentLink1Description: Datasheet; ComponentLink1URL: http://www.cde.com/resources/catalogs/SK.pdf; ComponentLink2Description: Digi-Key Listing; ComponentLink2URL: https://www.digikey.com/product-detail/en/cornell-dubilier-electronics-cde/SK101M200ST/338-2372-ND/1627401; Tolerance: 20%; Voltage: 200V; Price: 3.29; Device Package: Radial, Can, 16mm
footprint CAP AL TH D16 L7.5 H26.5
pins: 1, 2

## SK101M250ST
designator C?, comment 100uF  (value not drawn)
CAP ALUM 100UF 20% 250V RADIAL; Part Number: SK101M250ST; Manufacturer: Cornell Dubilier Electronics (CDE); TemperatureRange: -25C ~ 85C; Ripple Current: 310mA; Value: 100uF; PartId: 27444; Supplier 1: Digi-Key; Supplier Part Number 1: 338-2373-ND; ComponentLink1Description: Datasheet; ComponentLink1URL: http://www.cde.com/resources/catalogs/SK.pdf; ComponentLink2Description: Digi-Key Listing; ComponentLink2URL: https://www.digikey.com/product-detail/en/cornell-dubilier-electronics-cde/SK101M250ST/338-2373-ND/1627402; Tolerance: 20%; Voltage: 250V; Price: 3.57; Device Package: Radial, Can, 16mm
footprint CAP AL TH D16 L7.5 H37
pins: 1, 2

## SK102M010ST
designator C?, comment 1000uF  (value not drawn)
CAP ALUM 1000UF 20% 10V RADIAL; Part Number: SK102M010ST; Manufacturer: Cornell Dubilier Electronics (CDE); TemperatureRange: -40C ~ 85C; Ripple Current: 630mA; Value: 1000uF; PartId: 25706; Supplier 1: Digi-Key; Supplier Part Number 1: 338-2375-ND; ComponentLink1Description: Datasheet; ComponentLink1URL: http://www.cde.com/resources/catalogs/SK.pdf; ComponentLink2Description: Digi-Key Listing; ComponentLink2URL: https://www.digikey.com/product-detail/en/cornell-dubilier-electronics-cde/SK102M010ST/338-2375-ND/1627405; Tolerance: 20%; Voltage: 10V; Price: 0.98; Device Package: Radial, Can, 10mm
footprint CAP AL TH D10 L5 H22
pins: 1, 2

## SK102M050ST
designator C?, comment 1000uF  (value not drawn)
CAP ALUM 1000UF 20% 50V RADIAL; Part Number: SK102M050ST; Manufacturer: Cornell Dubilier Electronics (CDE); TemperatureRange: -40C ~ 85C; Ripple Current: 1.35A; Value: 1000uF; PartId: 26982; Supplier 1: Digi-Key; Supplier Part Number 1: 338-1688-ND; ComponentLink1Description: Datasheet; ComponentLink1URL: http://www.cde.com/resources/catalogs/SK.pdf; ComponentLink2Description: Digi-Key Listing; ComponentLink2URL: https://www.digikey.com/product-detail/en/cornell-dubilier-electronics-cde/SK102M050ST/338-1688-ND/1627409; Tolerance: 20%; Voltage: 50V; Price: 6.44; Device Package: Radial, Can, 16mm
footprint CAP AL TH D16 L7.5 H27
pins: 1, 2

## SK102M063ST
designator C?, comment 1000uF  (value not drawn)
CAP ALUM 1000UF 20% 63V RADIAL; Part Number: SK102M063ST; Manufacturer: Cornell Dubilier Electronics (CDE); TemperatureRange: -40C ~ 85C; Ripple Current: 1.55A; Value: 1000uF; PartId: 27433; Supplier 1: Digi-Key; Supplier Part Number 1: 338-2376-ND; ComponentLink1Description: Datasheet; ComponentLink1URL: http://www.cde.com/resources/catalogs/SK.pdf; ComponentLink2Description: Digi-Key Listing; ComponentLink2URL: https://www.digikey.com/product-detail/en/cornell-dubilier-electronics-cde/SK102M063ST/338-2376-ND/1627410; Tolerance: 20%; Voltage: 63V; Price: 3.26; Device Package: Radial, Can, 16mm
footprint CAP AL TH D16 L7.5 H37
pins: 1, 2

## SK221M035ST
designator C?, comment 220uF  (value not drawn)
CAP ALUM 220UF 20% 35V RADIAL; Part Number: SK221M035ST; Manufacturer: Cornell Dubilier Electronics (CDE); TemperatureRange: -40C ~ 85C; Ripple Current: 370mA; Value: 220uF; PartId: 25440; Supplier 1: Digi-Key; Supplier Part Number 1: 338-1666-ND; ComponentLink1Description: Datasheet; ComponentLink1URL: http://www.cde.com/resources/catalogs/SK.pdf; ComponentLink2Description: Digi-Key Listing; ComponentLink2URL: https://www.digikey.com/product-detail/en/cornell-dubilier-electronics-cde/SK221M035ST/338-1666-ND/1627432; Tolerance: 20%; Voltage: 35V; Price: 2.35; Device Package: Radial, Can, 10mm
footprint CAP AL TH D10 L5 H17.5
pins: 1, 2

## SK221M050ST
designator C?, comment 220uF  (value not drawn)
CAP ALUM 220UF 20% 50V RADIAL; Part Number: SK221M050ST; Manufacturer: Cornell Dubilier Electronics (CDE); TemperatureRange: -40C ~ 85C; Ripple Current: 440mA; Value: 220uF; PartId: 25721; Supplier 1: Digi-Key; Supplier Part Number 1: 338-1674-ND; ComponentLink1Description: Datasheet; ComponentLink1URL: http://www.cde.com/resources/catalogs/SK.pdf; ComponentLink2Description: Digi-Key Listing; ComponentLink2URL: https://www.digikey.com/product-detail/en/cornell-dubilier-electronics-cde/SK221M050ST/338-1674-ND/1627433; Tolerance: 20%; Voltage: 50V; Price: 3.26; Device Package: Radial, Can, 10mm
footprint CAP AL TH D10 L5 H22
pins: 1, 2

## SK221M063ST
designator C?, comment 220uF  (value not drawn)
CAP ALUM 220UF 20% 63V RADIAL; Part Number: SK221M063ST; Manufacturer: Cornell Dubilier Electronics (CDE); TemperatureRange: -40C ~ 85C; Ripple Current: 490mA; Value: 220uF; PartId: 26187; Supplier 1: Digi-Key; Supplier Part Number 1: 338-2378-ND; ComponentLink1Description: Datasheet; ComponentLink1URL: http://www.cde.com/resources/catalogs/SK.pdf; ComponentLink2Description: Digi-Key Listing; ComponentLink2URL: https://www.digikey.com/product-detail/en/cornell-dubilier-electronics-cde/SK221M063ST/338-2378-ND/1627434; Tolerance: 20%; Voltage: 63V; Price: 1.06; Device Package: Radial, Can, 10mm
footprint CAP AL TH D10 L5 H30
pins: 1, 2

## SK221M100ST
designator C?, comment 220uF  (value not drawn)
CAP ALUM 220UF 20% 100V RADIAL; Part Number: SK221M100ST; Manufacturer: Cornell Dubilier Electronics (CDE); TemperatureRange: -40C ~ 85C; Ripple Current: 710mA; Value: 220uF; PartId: 26964; Supplier 1: Digi-Key; Supplier Part Number 1: 338-1701-ND; ComponentLink1Description: Datasheet; ComponentLink1URL: http://www.cde.com/resources/catalogs/SK.pdf; ComponentLink2Description: Digi-Key Listing; ComponentLink2URL: https://www.digikey.com/product-detail/en/cornell-dubilier-electronics-cde/SK221M100ST/338-1701-ND/1627435; Tolerance: 20%; Voltage: 100V; Price: 2.35; Device Package: Radial, Can, 16mm
footprint CAP AL TH D16 L7.5 H27
pins: 1, 2